# Altium schematic symbol library components.SchLib: 14 symbols
Pins are listed as number, name and electrical type; pins without a type are passive.

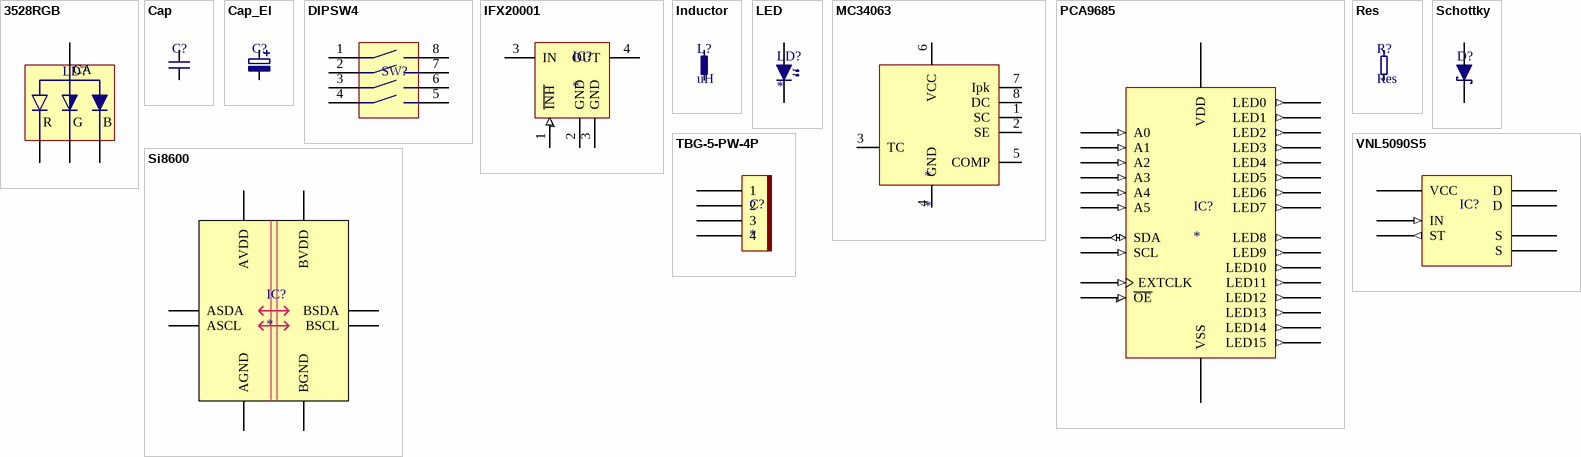
[diagram p0: symbols 3528RGB to VNL5090S5]

## 3528RGB
designator LD?
3528 RGB LED
footprint PLCC3528
pins: 1 A, 2 KR, 3 KB, 4 KG
text: CA; R; G; B

## Cap
designator C?
pins: 1 (power), 2 (power)

## Cap_El
designator C?
pins: 1 (power), 2 (power)

## DIPSW4
designator SW?
DIP-switch 4 pole
footprint DIPSW4 (DIP switch 4 pole)
pins: 1, 2, 3, 4, 5, 6, 7, 8

## IFX20001
designator IC?
LDO 40V 30mA
footprint PG-SCT595-5
pins: 1 ~{INH} (in), 2 GND (power), 3 GND (power), 3 IN (power), 4 OUT (power)

## Inductor
designator L?, comment uH
pins: 1 (power), 2 (power)

## LED
designator LD?
pins: A (power), K (power)

## MC34063
designator *
footprint SO-8
pins: 1 SC (power), 2 SE (power), 3 TC (power), 4 GND (power), 5 COMP (power), 6 VCC (power), 7 Ipk (power), 8 DC (power)

## PCA9685
designator IC?
16ch 12-bit I2C PWM Controller
footprint TSSOP28
pins: 1 A0 (in), 2 A1 (in), 3 A2 (in), 4 A3 (in), 5 A4 (in), 6 LED0 (out), 7 LED1 (out), 8 LED2 (out), 9 LED3 (out), 10 LED4 (out), 11 LED5 (out), 12 LED6 (out), 13 LED7 (out), 14 VSS (power), 15 LED8 (out), 16 LED9 (out), 17 LED10 (out), 18 LED11 (out), 19 LED12 (out), 20 LED13 (out), 21 LED14 (out), 22 LED15 (out), 23 ~{OE} (in), 24 A5 (in), 25 EXTCLK (in), 26 SCL (in), 27 SDA (io), 28 VDD (power)

## Res
designator R?
pins: 1 (power), 2 (power)

## Schottky
designator D?  (value not drawn)
Schottky Diode
pins: A (power), K (power)

## Si8600
designator IC?
Bidirectional I2C Isolator
footprint SO-8
pins: 1 AVDD, 2 ASDA, 3 ASCL, 4 AGND, 5 BGND, 6 BSCL, 7 BSDA, 8 BVDD

## TBG-5-PW-4P
designator C?
Pluggable socket header
footprint TBG-5-PW-4P (Pluggable terminal block socket)
pins: 1, 2, 3, 4

## VNL5090S5
designator IC?  (value not drawn)
Protected 13A low-side driver
footprint SO-8
pins: 1 VCC (power), 2 IN (in), 3 ST (out), 5 D (oc), 6 S (oe), 7 S (oe), 8 D (oc)